# Altium footprint library ESP32-C6-MINI-1-H4.PcbLib: 1 footprints
Each footprint in its own frame and in the unit in brackets; x right, y up, seen from the top. Pads: shape width x height; smd on the part's side, far side on the other; paste and mask are expansions set on the pad; w line width, h text height; cw(c..) or ccw(c..) is an arc to the next point about the centre after c.
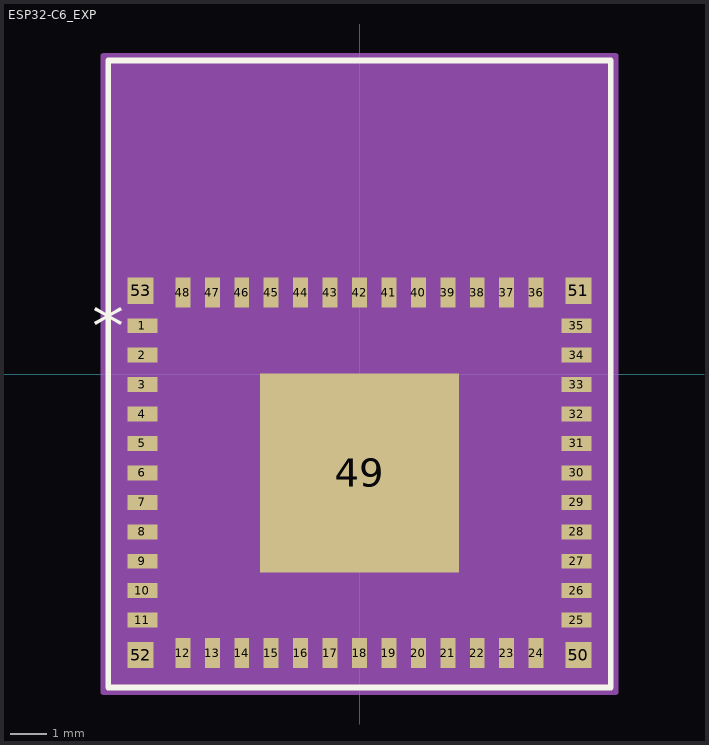
[diagram p0: the footprint, top view; thin cyan lines are the x and y axes]

## ESP32-C6_EXP [mil]
pads (53):
  rect 32x16 smd paste+0 mask+0: 1(-232.28,51.63) 2(-232.28,20.13) 3(-232.28,-11.37) 4(-232.28,-42.87) 5(-232.28,-74.37) 6(-232.28,-105.87) 7(-232.28,-137.37) 8(-232.28,-168.87) 9(-232.28,-200.37) 10(-232.28,-231.87) 11(-232.28,-263.37) 25(232.28,-263.37) 26(232.28,-231.87) 27(232.28,-200.37) 28(232.28,-168.87) 29(232.28,-137.37) 30(232.28,-105.87) 31(232.28,-74.37) 32(232.28,-42.87) 33(232.28,-11.37) 34(232.28,20.13) 35(232.28,51.63)
  rect 16x32 smd paste+0 mask+0: 12(-189,-298.78) 13(-157.5,-298.78) 14(-126,-298.78) 15(-94.5,-298.78) 16(-63,-298.78) 17(-31.5,-298.78) 18(0,-298.78) 19(31.5,-298.78) 20(63,-298.78) 21(94.5,-298.78) 22(126,-298.78) 23(157.5,-298.78) 24(189,-298.78) 36(189,87.04) 37(157.5,87.04) 38(126,87.04) 39(94.5,87.04) 40(63,87.04) 41(31.5,87.04) 42(0,87.04) 43(-31.5,87.04) 44(-63,87.04) 45(-94.5,87.04) 46(-126,87.04) 47(-157.5,87.04) 48(-189,87.04)
  rect 213x213 smd paste-106 mask+0: 49(0,-105.87)
  rect 28x28 smd paste-14 mask-14: 50(234.28,-300.78) 51(234.28,89.04) 52(-234.28,-300.78) 53(-234.28,89.04)
Top Overlay:
  lines w6: -269,-335.5 269,-335.5 269,335.5 -269,335.5 -269,-335.5
  text "*" at -285.78,26.63 h50
  text ".Designator" at -137.5,-130.87 h50
Top Paste:
  region: -57.19,102.56 -102.56,102.56 -102.56,57.19 -57.19,57.19
  region: -57.19,49.31 -102.56,49.31 -102.56,3.94 -57.19,3.94
  region: -57.19,-3.94 -102.56,-3.94 -102.56,-49.31 -57.19,-49.31
  region: -57.19,-57.19 -102.56,-57.19 -102.56,-102.56 -57.19,-102.56
  region: -3.94,102.56 -49.31,102.56 -49.31,57.19 -3.94,57.19
  region: -3.94,49.31 -49.31,49.31 -49.31,3.94 -3.94,3.94
  region: -3.94,-3.94 -49.31,-3.94 -49.31,-49.31 -3.94,-49.31
  region: -3.94,-57.19 -49.31,-57.19 -49.31,-102.56 -3.94,-102.56
  region: 49.31,102.56 3.94,102.56 3.94,57.19 49.31,57.19
  region: 49.31,49.31 3.94,49.31 3.94,3.94 49.31,3.94
  region: 49.31,-3.94 3.94,-3.94 3.94,-49.31 49.31,-49.31
  region: 49.31,-57.19 3.94,-57.19 3.94,-102.56 49.31,-102.56
  region: 102.56,102.56 57.19,102.56 57.19,57.19 102.56,57.19
  region: 102.56,49.31 57.19,49.31 57.19,3.94 102.56,3.94
  region: 102.56,-3.94 57.19,-3.94 57.19,-49.31 102.56,-49.31
  region: 102.56,-57.19 57.19,-57.19 57.19,-102.56 102.56,-102.56
Mechanical 13:
  lines w1: -264,280.5 -214,330.5 ; -264,-330.5 264,-330.5 264,330.5 -264,330.5 -264,-330.5
  text ".Designator" at -137.5,-130.87 h50
  text "*" at -203.78,26.63 h50
Mechanical 15:
  region: -207,-340.5 -274,-340.5 -274,-175.5 -274,175.5 -274,340.5 -207,340.5 207,340.5 274,340.5 274,175.5 274,-175.5 274,-340.5 207,-340.5
  lines w6: -274,-175.5 -274,-340.5 -207,-340.5 ; -274,-175.5 -274,-175.5 ; -274,-175.5 -274,175.5 ; -274,175.5 -274,175.5 ; -274,175.5 -274,340.5 -207,340.5 ; -207,-340.5 207,-340.5 ; -207,-340.5 -207,-340.5 ; -207,340.5 -207,340.5 ; -207,340.5 207,340.5 ; 207,-340.5 274,-340.5 274,-175.5 ; 207,-340.5 207,-340.5 ; 207,340.5 207,340.5 ; 207,340.5 274,340.5 274,175.5 ; 274,-175.5 274,175.5 ; 274,-175.5 274,-175.5 ; 274,175.5 274,175.5